# EAGLE library part TCN75 (library microchip2)
The TCN75 is a serially programmable temperature sensor that notifies the host controller when ambient temperature exceeds a user-programmed setpoint. Hysteresis is also programmable. The INT/CMPTR output is programmable as either a simple comparator for thermostat operation or as a temperature event interrupt. Communication with the TCN75 is accomplished via a two-wire bus that is compatible with industry standard protocols. This permits reading the current temperature, programming the setpoint and hysteresis, and configuring the device.
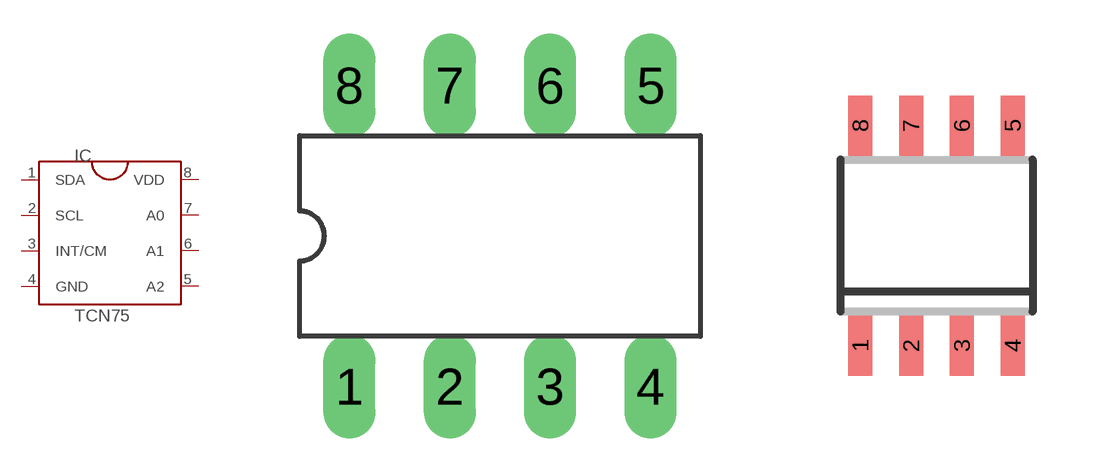
[diagram p189: symbol with the pads of DIL8; footprints DIL8, SOIC8]

Designator prefix IC

## TCN75TCN75MPA  [DIL8]
1  SDA
2  SCL  in
3  INT/CM  oc
4  GND  pwr
5  A2  pwr
6  A1  pwr
7  A0  pwr
8  VDD  pwr

## TCN75TCN75MOA  [SOIC8]
Pads as for DIL8

## TCN75TCN75MUA  [MSOP8]
Pads as for DIL8

## Footprint DIL8 (pad centres in mm)
DIL package type P
drill 0.813 long: 1 -3.81,-3.81; 2 -1.27,-3.81; 3 1.27,-3.81; 4 3.81,-3.81; 5 3.81,3.81; 6 1.27,3.81; 7 -1.27,3.81; 8 -3.81,3.81

## Footprint SOIC8 (pad centres in mm)
SOIC-8 CASE 751-07 Source: http://www.onsemi.com/pub/Collateral/MC34164-D.PDF D (R-PDSO-G8)PLATIC SMALL-OUTLINE PACKAGE Source: http://focus.ti.com/lit/ds/symlink/tlc27l2.pdf
smd 0.6 x 1.5: 1 -1.905,-2.75; 2 -0.635,-2.75; 3 0.635,-2.75; 4 1.905,-2.75; 5 1.905,2.75; 6 0.635,2.75; 7 -0.635,2.75; 8 -1.905,2.75

## Footprint MSOP8 (pad centres in mm)
Micro Small Outline Package Grid 0.65mm Source: http://ww1.microchip.com/downloads/en/DeviceDoc/21796H.pdf
smd 0.45 x 1: 1 -0.975,-2.05; 2 -0.325,-2.05; 3 0.325,-2.05; 4 0.975,-2.05; 5 0.975,2.05; 6 0.325,2.05; 7 -0.325,2.05; 8 -0.975,2.05